# EAGLE library part LT3991EMSE#PBF (library LT3991EMSE#PBF)
LINEAR TECHNOLOGY - LT3991EMSE#PBF - DC-DC Switching Buck (Step Down) Regulator, Adjustable, 4.3V-55Vin, 1.19V-30Vout, 1.2Aout, MSOP-10 Source: Datasheet <https://datasheet.datasheetarchive.com/originals/distributors/Datasheets-SFU4/DSASF4000-3355.pdf>
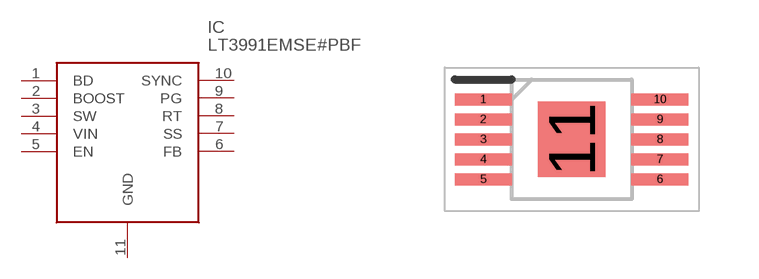
[diagram p0: symbol with the pads of SOP50P490X110-11N; footprint SOP50P490X110-11N]

Designator prefix IC

## LT3991EMSE#PBF (Arrow_Part_Number: LT3991EMSE#PBF; Arrow_Price-Stock: https://www.arrow.com/en/products/lt3991emsepbf/analog-devices; Description: LINEAR TECHNOLOGY - LT3991EMSE#PBF - DC-DC Switching Buck (Step Down) Regulator, Adjustable, 4.3V-55Vin, 1.19V-30Vout, 1.2Aout, MSOP-10; Height: 1.1mm; Manufacturer_Name: Analog Devices; Manufacturer_Part_Number: LT3991EMSE#PBF; Mouser_Part_Number: 584-LT3991EMSE#PBF; Mouser_Price-Stock: https://www.mouser.co.uk/ProductDetail/Analog-Devices-Linear-Technology/LT3991EMSEPBF?qs=hVkxg5c3xu%2FPU%252Bq5oSghVA%3D%3D)  [SOP50P490X110-11N]
1  BD
2  BOOST
3  SW
4  VIN
5  EN
6  FB
7  SS
8  RT
9  PG
10  SYNC
11  GND

## Footprint SOP50P490X110-11N (pad centres in mm)
MSE Package LTC DWG 10-Lead Plastic MSOP, Exposed Die Pad_1
smd 1.425 x 0.3: 1 -2.212,1; 2 -2.212,0.5; 3 -2.212,0; 4 -2.212,-0.5; 5 -2.212,-1; 6 2.212,-1; 7 2.212,-0.5; 8 2.212,0; 9 2.212,0.5; 10 2.212,1
smd 1.68 x 1.88: 11 0,0